# Altium footprint library OLED_Display_4Pin_2.54mm.PcbLib: 1 footprints
Each footprint in its own frame and in the unit in brackets; x right, y up, seen from the top. Pads: shape width x height; smd on the part's side, far side on the other; paste and mask are expansions set on the pad; w line width, h text height; cw(c..) or ccw(c..) is an arc to the next point about the centre after c.
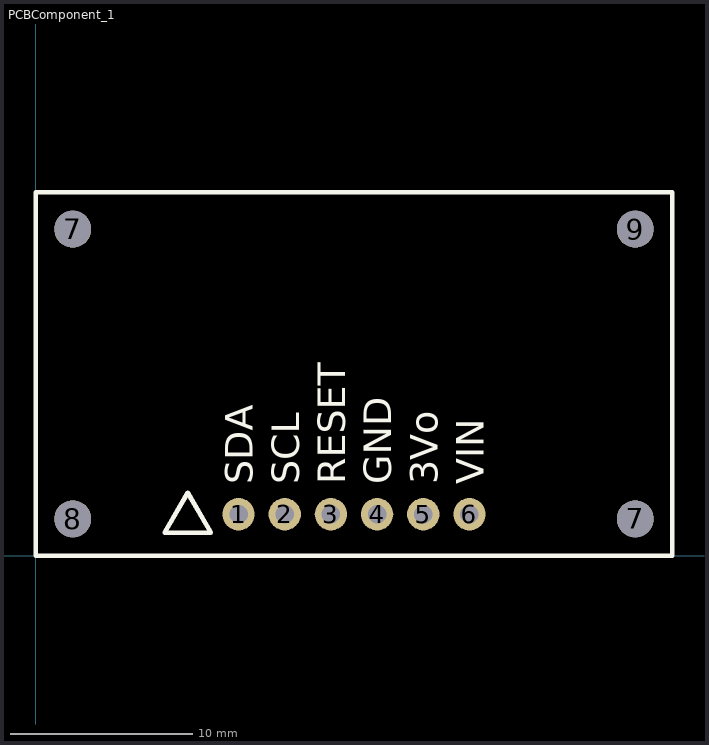
[diagram p0: the footprint, top view; thin cyan lines are the x and y axes]

## PCBComponent_1 [mil]
pads (10):
  round 70 hole 40: 1(439,90) 2(539,90) 3(639,90) 4(739,90) 5(839,90) 6(939,90)
  round 80 hole 80 unplated: 7(80,707.4) 7(1298,80) 8(80,80) 9(1298,707.4)
Top Overlay:
  lines w10: 0,0 1378,0 1378,787.4 0,787.4 0,0 ; 279,50 379,50 329,136.6 279,50
  text "3Vo" at 870,155 h60
  text "VIN" at 970,155 h60
  text "GND" at 770,155 h60
  text "RESET" at 670,155 h60
  text "SCL" at 570,155 h60
  text "SDA" at 470,155 h60